# Altium footprint library QUTMS_IMULibrary.PcbLib: 1 footprints
Each footprint in its own frame and in the unit in brackets; x right, y up, seen from the top. Pads: shape width x height; smd on the part's side, far side on the other; paste and mask are expansions set on the pad; w line width, h text height; cw(c..) or ccw(c..) is an arc to the next point about the centre after c.
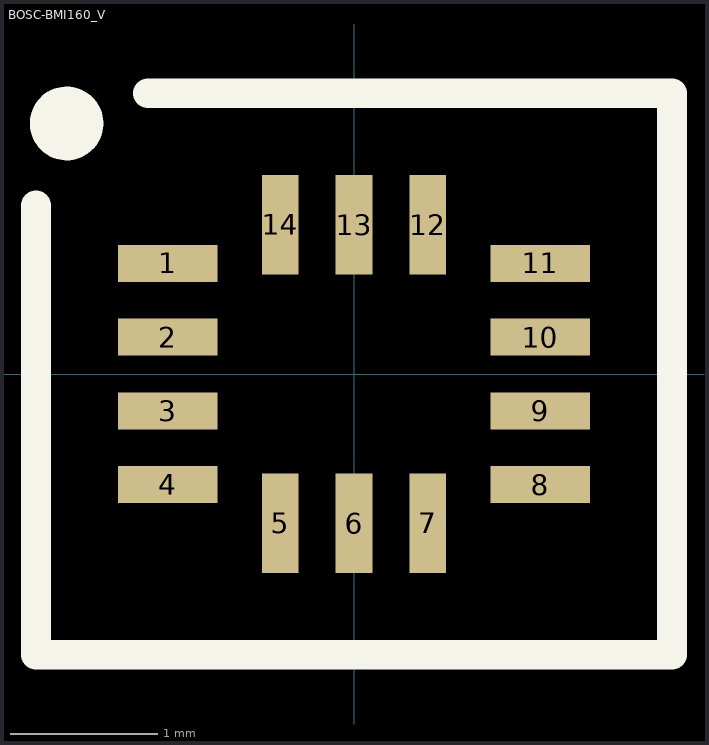
[diagram p0: the footprint, top view; thin cyan lines are the x and y axes]

## BOSC-BMI160_V [mm] "PQFN, 14-Leads, Body 3x2.5mm, Pitch 0.5mm"
height 0.88
pads (14):
  rect 0.675x0.25 smd: 1(-1.262,0.75) 2(-1.262,0.25) 3(-1.262,-0.25) 4(-1.262,-0.75) 8(1.262,-0.75) 9(1.262,-0.25) 10(1.262,0.25) 11(1.262,0.75)
  rect 0.25x0.675 smd: 5(-0.5,-1.012) 6(0,-1.012) 7(0.5,-1.012) 12(0.5,1.012) 13(0,1.012) 14(-0.5,1.012)
Top Overlay:
  circle w0.25: c-1.95,1.7 r0.125
  lines w0.203: -2.159,1.143 -2.159,-1.905 2.159,-1.905 2.159,1.905 -1.397,1.905
3D body "PQFN50P300X250X88-14L.step": height 0.88, standoff 0, extent -1.5,-1.25 1.5,1.25